# Altium footprint library LIS2DW12TR.PcbLib: 1 footprints
Each footprint in its own frame and in the unit in brackets; x right, y up, seen from the top. Pads: shape width x height; smd on the part's side, far side on the other; paste and mask are expansions set on the pad; w line width, h text height; cw(c..) or ccw(c..) is an arc to the next point about the centre after c.
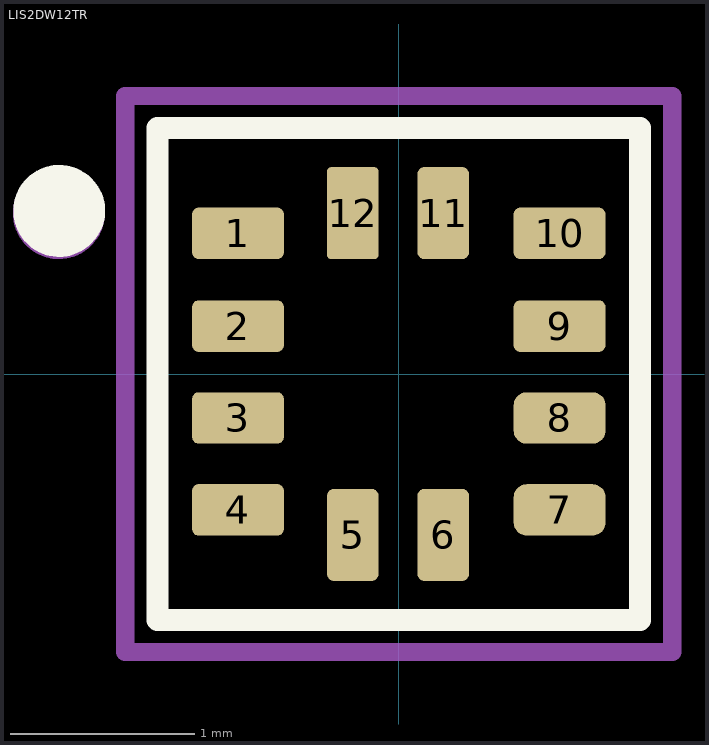
[diagram p0: the footprint, top view; thin cyan lines are the x and y axes]

## LIS2DW12TR [mm]
pads (12):
  rrect25% 0.5x0.28 smd: 1(-0.875,0.765) 2(-0.875,0.261) 3(-0.875,-0.239) 4(-0.875,-0.739) 9(0.875,0.261) 10(0.875,0.765)
  rrect25% 0.28x0.5 smd: 5(-0.25,-0.875) 6(0.242,-0.875)
  rrect50% 0.5x0.28 smd: 7(0.875,-0.739) 8(0.875,-0.239)
  rrect25% 0.28x0.5 smd paste+0 mask+0.102: 11(0.242,0.875)
  rrect15% 0.28x0.5 smd: 12(-0.25,0.875)
Top Overlay:
  circle w0.25: c-1.848,0.888 r0.125
  lines w0.12: -1.312,-1.337 -1.312,1.338 1.313,1.338 1.313,-1.337 -1.312,-1.337
Mechanical 1:
  circle w0.25: c-1.85,0.875 r0.125
  lines w0.1: -1.488,-1.512 1.488,-1.512 1.488,1.513 -1.488,1.513 -1.488,-1.512
  text ".Designator" at 0.027,0.301 h1
Top Courtyard:
  text "+" at -0.5,-0.75 h1.5
3D body "IC_STMicroelectronics_LIS2DW12TR_eec.STEP": height 0.7, standoff 0, extent -1,-1 1,1